# EAGLE library part EC12E2424407 (library Rebel)
rotary encoder with switch EC12E2424407
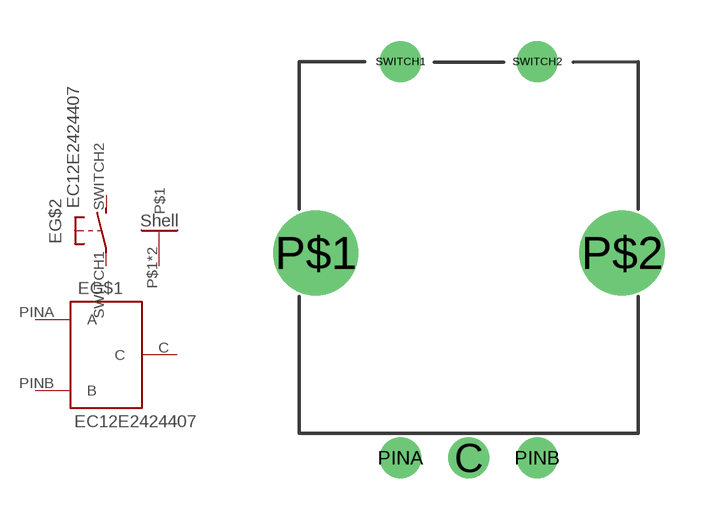
[diagram p17: symbol with the pads of EC12E2424407; footprint EC12E2424407]

Designator prefix E; gates G$1=EC12E2430802 G$2=TS G$3=POTSHELL

## EC12E2424407  [EC12E2424407]
C  G$1:C
P$1  G$3:P$1
P$2  G$3:P$1
PINA  G$1:A
PINB  G$1:B
SWITCH1  G$2:P  pas
SWITCH2  G$2:S  pas

## Footprint EC12E2424407 (pad centres in mm)
rotary encoder with the switch - EC12E2424407
drill 1: C 0,-7.5; PINA -2.5,-7.5; PINB 2.5,-7.5; SWITCH1 -2.5,7; SWITCH2 2.5,7
drill 2.1: P$1 -5.6,0; P$2 5.6,0